# Altium schematic symbol library 蜂鸣器.SchLib: 1 symbol
Pins are listed as number, name and electrical type; pins without a type are passive.

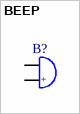
[diagram p0: symbol BEEP]

## BEEP
designator B?
蜂鸣器
pins: 1, 2
text: +